# Altium footprint library Passives.PcbLib: 9 footprints
Each footprint in its own frame and in the unit in brackets; x right, y up, seen from the top. Pads: shape width x height; smd on the part's side, far side on the other; paste and mask are expansions set on the pad; w line width, h text height; cw(c..) or ccw(c..) is an arc to the next point about the centre after c.
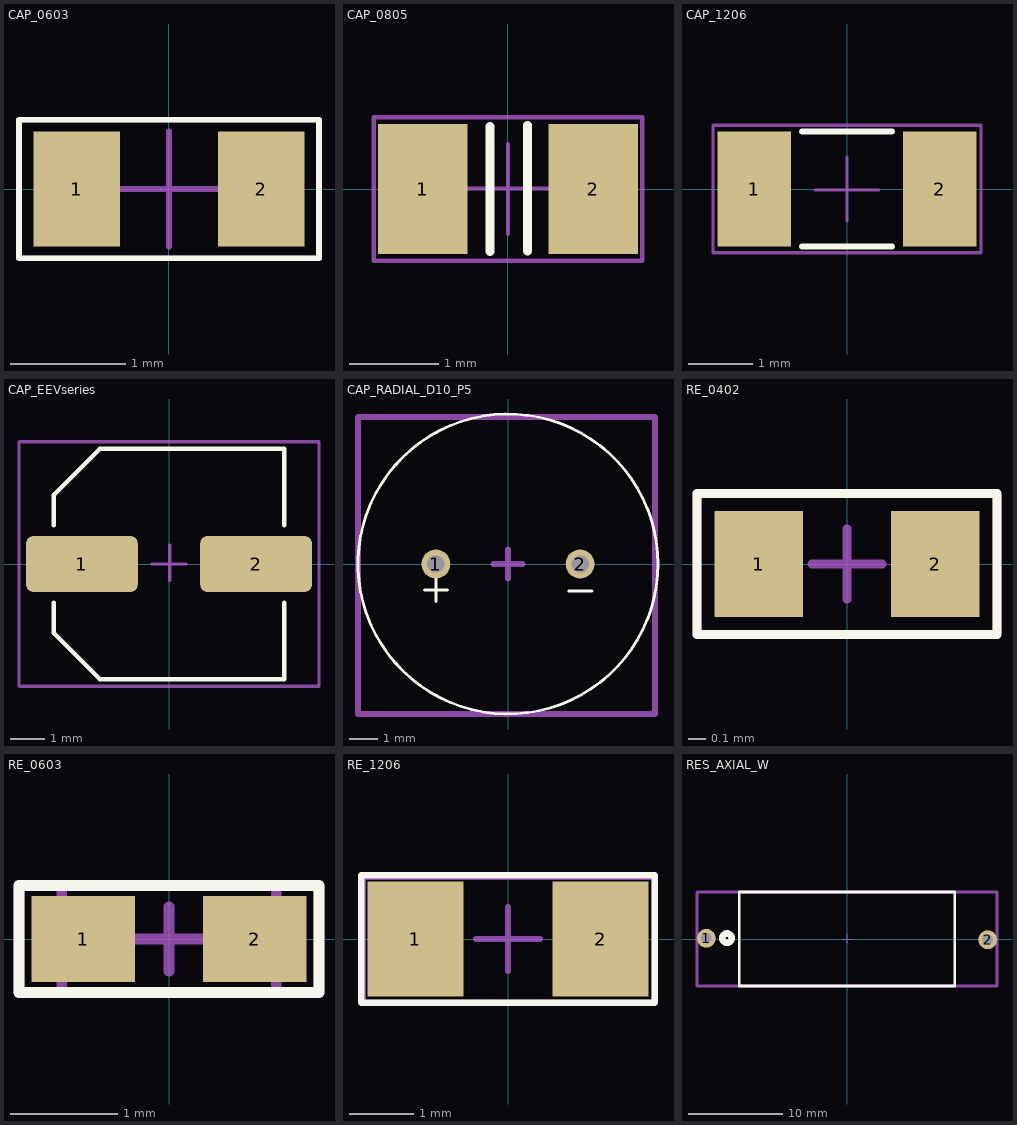
[diagram p0: the footprints below, top view; thin cyan lines are the x and y axes]

## CAP_0603 [mm]
pads (2):
  rect 0.75x1 smd mask+0.05: 1(-0.8,0) 2(0.8,0)
Top Overlay:
  lines w0.05: -1.3,-0.6 1.3,-0.6 1.3,0.6 -1.3,0.6 -1.3,-0.6
Top Component Center:
  lines w0.05: -0.5,0 0.5,0 ; 0,-0.5 0,0.5 ; -1.3,-0.6 1.3,-0.6 1.3,0.6 -1.3,0.6 -1.3,-0.6
Top Designator:
  lines w0.05: -1.3,-0.6 1.3,-0.6 1.3,0.6 -1.3,0.6 -1.3,-0.6
  text ".Designator" at -0.6,-0.133 h0.5
3D body "CAPC0603.STEP": height 0.8, standoff 0, extent -1.05,-0.52 1.05,0.509

## CAP_0805 [mm]
pads (2):
  rect 1x1.45 smd mask+0.05: 1(-0.95,0) 2(0.95,0)
Top Overlay:
  lines w0.1: -0.2,-0.7 -0.2,0.7 ; 0.216,-0.692 0.216,0.708
Top Component Center:
  lines w0.05: -0.487,0.006 0.513,0.006 ; 0,-0.5 0,0.5 ; -1.5,-0.8 1.5,-0.8 1.5,0.8 -1.5,0.8 -1.5,-0.8
Top Designator:
  lines w0.05: -1.5,-0.8 1.5,-0.8 1.5,0.8 -1.5,0.8 -1.5,-0.8
3D body "CAPC0805.STEP": height 0.9, standoff 0, extent -1.301,-0.678 1.301,0.678

## CAP_1206 [mm]
pads (2):
  rect 1.15x1.8 smd mask+0.05: 1(-1.45,0) 2(1.45,0)
Top Overlay:
  lines w0.1: -0.7,-0.9 0.7,-0.9 ; -0.7,0.9 0.7,0.9
Top Component Center:
  lines w0.05: -0.499,-0.017 0.501,-0.017 ; 0,-0.5 0,0.5 ; -2.1,-1 2.1,-1 2.1,1 -2.1,1 -2.1,-1
Top Designator:
  lines w0.05: -2.1,-1 2.1,-1 2.1,1 -2.1,1 -2.1,-1
  text ".Designator" at -0.4,-0.133 h0.5
3D body "CAPC1206.STEP": height 1.3, standoff -0.01, extent -1.975,-0.976 1.975,0.976

## CAP_EEVseries [mm] "6.6x6.6"
pads (2):
  rrect25% 3.2x1.6 smd mask+0.05: 1(-2.495,0) 2(2.495,0)
Top Overlay:
  lines w0.127: -3.3,-1.11 -3.3,-1.98 -1.98,-3.3 3.3,-3.3 3.3,-1.11 ; -3.3,1.11 -3.3,1.98 -1.98,3.3 3.3,3.3 3.3,1.11
Top Component Center:
  lines w0.1: -0.5,0 0.5,0 ; 0.027,-0.469 0.027,0.531 ; -4.3,-3.5 4.3,-3.5 4.3,3.5 -4.3,3.5 -4.3,-3.5
Top Designator:
  lines w0.1: -4.3,-3.5 4.3,-3.5 4.3,3.5 -4.3,3.5 -4.3,-3.5
  text ".Designator" at -1.371,-0.638 h1.52
3D body "Radial Can SMD 6.6x6.6.step": height 8.05, standoff 0, extent -3.899,-3.407 3.899,3.4

## CAP_RADIAL_D10_P5 [mm]
pads (2):
  round 1 hole 0.6 mask+0.05: 1(-2.5,0) 2(2.5,0)
Top Overlay:
  circle w0.1: c0,0 r5.2
  lines w0.1: -2.9,-0.9 -2.1,-0.9 ; -2.5,-1.3 -2.5,-0.5 ; 2.106,-0.934 2.906,-0.934
Top Component Center:
  lines w0.2: -0.5,0 0.5,0 ; 0,-0.5 0,0.5 ; -5.2,-5.2 -5.2,5.1 5.1,5.1 5.1,-5.2 -5.2,-5.2
Top Designator:
  lines w0.2: -5.2,-5.2 -5.2,5.1 5.1,5.1 5.1,-5.2 -5.2,-5.2
  text ".Designator" at -1.646,-0.538 h1.52
3D body: height 0.3, standoff -15, extent 2.2,-0.3 2.8,0.3
3D body: height 0.3, standoff -20, extent -2.8,-0.3 -2.2,0.3
3D body: height 20.2, standoff 0.2, extent -5.046,-5.032 4.954,4.968

## RE_0402 [mm]
pads (2):
  rect 0.5x0.6 smd mask+0.05: 1(-0.5,0) 2(0.5,0)
Top Overlay:
  lines w0.05: -0.85,-0.4 0.85,-0.4 0.85,0.4 -0.85,0.4 -0.85,-0.4
Top Component Center:
  lines w0.05: -0.2,0 0.2,0 ; 0,-0.2 0,0.2 ; -0.85,-0.4 0.85,-0.4 0.85,0.4 -0.85,0.4 -0.85,-0.4
Top Designator:
  lines w0.05: -0.85,-0.4 0.85,-0.4 0.85,0.4 -0.85,0.4 -0.85,-0.4
  text ".Designator" at -0.6,-0.258 h0.5
3D body "RES_0402.STEP": height 0.4, standoff 0, extent -0.5,-0.25 0.5,0.25

## RE_0603 [mm]
pads (2):
  rect 0.965x0.8 smd mask+0.05: 1(-0.8,0) 2(0.8,0)
Top Overlay:
  lines w0.1: -1.4,-0.5 1.4,-0.5 1.4,0.5 -1.3,0.5 -1.4,0.5 -1.4,-0.5
Top 3D Body:
  lines w0.1: -1,-0.5 1,-0.5 1,0.5 -1,0.5 -1,-0.5
Top Component Center:
  lines w0.1: -0.3,0 0.3,0 ; 0,-0.3 0,0.3 ; -1.4,-0.5 -1.4,0.5 1.4,0.5 1.4,-0.5 -1.4,-0.5
Top Designator:
  lines w0.1: -1.4,-0.5 1.4,-0.5 1.4,0.5 -1.4,0.5 -1.4,-0.5
  text ".Designator" at -0.2,-0.167 h0.4
3D body "res0603S1.STEP": height 0.45, standoff 0, extent -0.988,-0.5 0.988,0.479

## RE_1206 [mm]
pads (2):
  rect 1.5x1.8 smd mask+0.05: 1(-1.45,0) 2(1.45,0)
Top Overlay:
  lines w0.1: -2.3,-1 -2.3,1 2.3,1 2.3,-1 -2.3,-1
Top Component Center:
  lines w0.1: -0.5,0 0.5,0 ; 0,-0.5 0,0.5 ; -2.275,-1 -2.275,0.975 2.3,0.975 2.3,-1 -2.275,-1
Top Designator:
  lines w0.1: -2.3,-1 -2.3,1 2.3,1 2.3,-1 -2.3,-1
  text ".Designator" at -0.4,-0.133 h0.5
3D body "res1206r.STEP": height 0.55, standoff 0, extent -1.934,-0.938 2.034,0.938

## RES_AXIAL_W [mm]
pads (2):
  round 2 hole 1.1 mask+0.05: 1(-15,0.075) 2(15,-0.075)
Top Overlay:
  circle w0.7: c-12.8,0.1 r0.5
  lines w0.3: -11.5,-5 11.5,-5 11.5,5 -11.5,5 -11.5,-5
Top Component Center:
  lines w0.1: -0.5,0 0.5,0 ; 0,-0.5 0,0.5
  lines w0.3: -16,-5 16,-5 16,5 -16,5 -16,-5
Top Designator:
  lines w0.3: -16,-5 -16,5 16,5 16,-5 -16,-5
  text ".Designator" at -1.746,-0.738 h1.52
3D body: height 5, standoff 4.2, extent 6.3,-0.5 15.3,0.3
3D body: height 5, standoff -4, extent 14.6,-0.485 15.4,0.315
3D body: height 5, standoff 4.2, extent -15.3,-0.3 -6.3,0.5
3D body: height 5, standoff -4, extent -15.4,-0.315 -14.6,0.485
3D body: height 9.65, standoff 0, extent -11,-4.75 11,4.9